# Altium schematic symbol library LED GREEN SMD.Schlib: 1 symbol
Pins are listed as number, name and electrical type; pins without a type are passive.

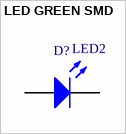
[diagram p0: symbol LED GREEN SMD]

## LED GREEN SMD
designator D?, comment LED2
Typical RED, GREEN, YELLOW, AMBER GaAs LED
pins: 1 A, 2 K